# Altium schematic symbol library ZhangXue_Project.SCHLIB: 35 symbols
Pins are listed as number, name and electrical type; pins without a type are passive.

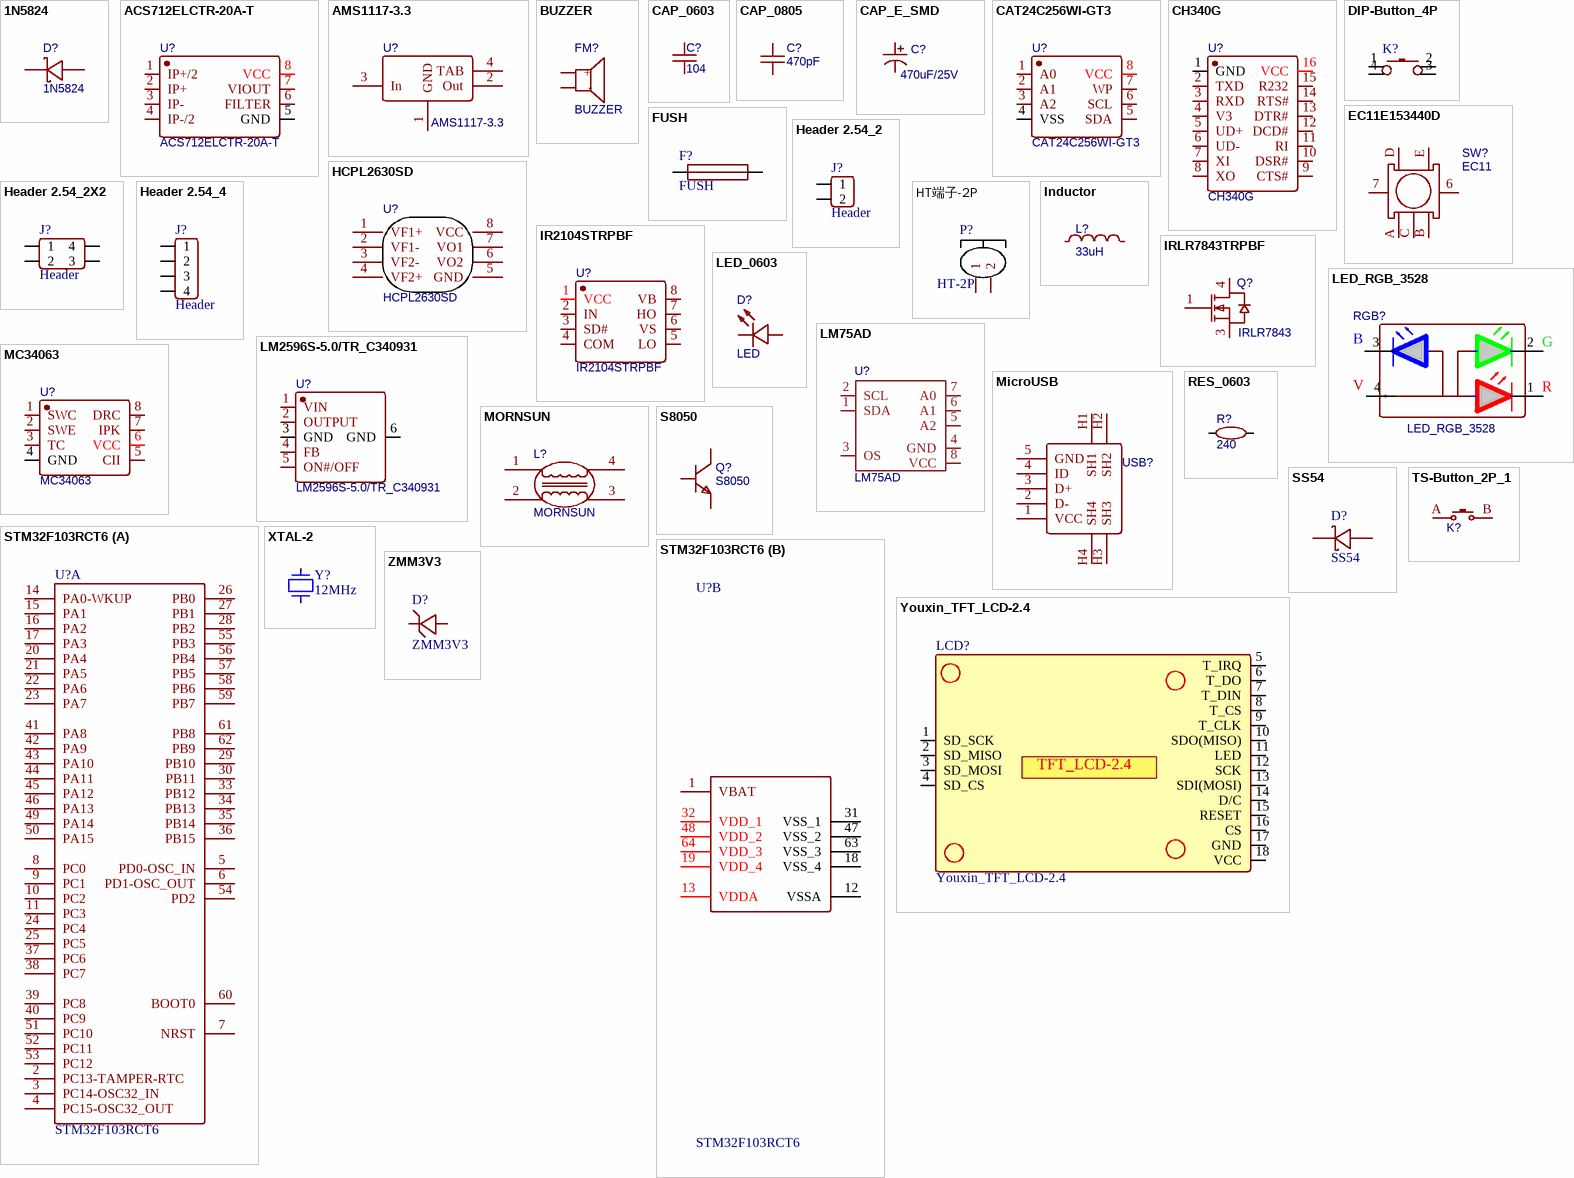
[diagram p0: symbols 1N5824 to ZMM3V3]

## 1N5824
designator D?
肖特基二极管; BOM_Manufacturer: KEXIN; BOM_Manufacturer Part: 1N5819; Contributor: LCSC; BOM_Supplier: LCSC; BOM_Supplier Part: C437199; spicePre: D; spiceSymbolName: 1N5819_C437199
footprint DO214_SMA (贴片二极管)
footprint DO214_SMB
footprint DO214_SMC
pins: 1 A, 2 C

## ACS712ELCTR-20A-T
designator U?
BOM_Manufacturer: ALLEGRO; SMT Type: Basic; spicePre: X; BOM_Supplier: LCSC; BOM_Manufacturer Part: ACS712ELCTR-20A-T; BOM_LCSC Assembly: Yes; image: //image.lceda.cn/szlcsc/C10681.jpg; BOM_Supplier Part: C10681; spiceSymbolName: ACS712ELCTR-20A-T
footprint SOIC-8_150MIL
pins: 1 IP+/2, 2 IP+, 3 IP-, 4 IP-/2, 5 GND, 6 FILTER, 7 VIOUT, 8 VCC

## AMS1117-3.3
designator U?
BOM_Manufacturer: SK; Contributor: LCSC; SMT Type: Extend; BOM_Supplier: LCSC; BOM_Supplier Part: C165482; BOM_Manufacturer Part: AMS1117-3.3; BOM_LCSC Assembly: Yes; spicePre: U; spiceSymbolName: AMS1117-3.3_C165482
footprint SOT-223_3
pins: 1 GND, 2 Out, 3 In, 4 TAB

## BUZZER
designator FM?
蜂鸣器; BOM_Manufacturer: HNDZ; BOM_Manufacturer Part: TMB12A12; BOM_Supplier: LCSC; BOM_Supplier Part: C96079; spicePre: B; spiceSymbolName: TMB12A12
footprint BUZZ-12*7.5 (外径12mm，脚距7.5mm)
pins: 1 +, 2 －

## CAP_0603
designator C?, comment 104
BOM_Manufacturer: Samsung Electro-Mechanics; BOM_Manufacturer Part: CL10B104KB8WPNC; nameAlias: Capacitance; Contributor: LCSC; BOM_Supplier: LCSC; BOM_Supplier Part: C307348; spicePre: C; spiceSymbolName: CL10B104KB8WPNC
footprint CAP_0603
pins: 1, 2

## CAP_0805
designator C?, comment 470pF
BOM_Manufacturer: Samsung Electro-Mechanics; BOM_Manufacturer Part: CL10B104KB8WPNC; nameAlias: Capacitance; Contributor: LCSC; BOM_Supplier: LCSC; BOM_Supplier Part: C307348; spicePre: C; spiceSymbolName: CL10B104KB8WPNC
footprint CAP_0805
pins: 1, 2

## CAP_E_SMD
designator C?, comment 470uF/25V
贴片电解电容; BOM_Manufacturer: ROQANG; BOM_Manufacturer Part: RVT1C221M0607; nameAlias: Capacitance; BOM_Supplier: LCSC; BOM_Supplier Part: C72496; spicePre: C; spiceSymbolName: RVT1C221M0607
footprint CAPE_SMD_D_6.4 (6.3X6.6X5.4)
footprint CAPE_SMD_G_10.6 (10X10.3X10.2)
footprint CAPE_SMD_F_8.4 (8X8.3X10.2)
pins: 1, 2

## CAT24C256WI-GT3
designator U?
BOM_Manufacturer: ON; SMT Type: Extend; BOM_Supplier: LCSC; BOM_Manufacturer Part: CAT24C256WI-GT3; image: //image.lceda.cn/szlcsc/C79987.jpg; BOM_Supplier Part: C79987; BOM_LCSC Assembly: Yes; spicePre: U; spiceSymbolName: CAT24C256WI-GT3
footprint SOIC-8_150MIL
pins: 1 A0, 2 A1, 3 A2, 4 VSS, 5 SDA, 6 SCL, 7 WP, 8 VCC

## CH340G
designator U?
BOM_Manufacturer: WCH; SMT Type: Basic; timeStamp: 1468327462; BOM_Supplier: LCSC; BOM_Manufacturer Part: CH340G; BOM_LCSC Assembly: Yes; image: //image.lceda.cn/szlcsc/C14267.jpg; BOM_Supplier Part: C14267; spicePre: U; spiceSymbolName: CH340G
footprint SOP-16 (10.3*6.2*1.8mm（长宽高）)
pins: 1 GND, 2 TXD, 3 RXD, 4 V3, 5 UD+, 6 UD-, 7 XI, 8 XO, 9 CTS#, 10 DSR#, 11 RI, 12 DCD#, 13 DTR#, 14 RTS#, 15 R232, 16 VCC

## DIP-Button_4P
designator K?  (value not drawn)
按键，直插，6*6*6
footprint TSW DIP-6*6*6 (6*6*6mm)
pins: 1, 2, 3, 4

## EC11E153440D
designator SW?, comment EC11
BOM_Manufacturer: ALPS Electric; BOM_Manufacturer Part: EC11E153440D; Contributor: LCSC; BOM_Supplier: LCSC; BOM_Supplier Part: C370992; spicePre: S; spiceSymbolName: EC11E153440D
footprint SW_EC11
pins: 6, 7, A, B, C, D, E

## FUSH
designator F?
保险丝
footprint FUSE-L
pins: 1, 2

## HCPL2630SD
designator U?
BOM_Manufacturer: FAIRCHILD; BOM_Supplier: LCSC; BOM_Manufacturer Part: HCPL2630SD; image: //image.lceda.cn/szlcsc/C46037.jpg; BOM_Supplier Part: C46037; spicePre: U; spiceSymbolName: HCPL2630SD
footprint SOP8_2_54
pins: 1 VF1+, 2 VF1-, 3 VF2-, 4 VF2+, 5 GND, 6 VO2, 7 VO1, 8 VCC

## Header 2.54_2
designator J?, comment Header
footprint Header 2.54X2
footprint Header H 2.54X2
footprint Header F 2.54X2
footprint HX2.54-2 (两针白色插座（已加焊）)
pins: 1, 2

## Header 2.54_2X2
designator J?, comment Header
footprint Header 2.54_2x2
pins: 1, 2, 3, 4

## Header 2.54_4
designator J?, comment Header
footprint Header 2.54X4
footprint Header H 2.54X4
footprint Header F 2.54X4
pins: 1, 2, 3, 4

## HT端子-2P
designator P?, comment HT-2P
footprint HT508-2P
footprint HT508-2P-H
pins: 1, 2

## Inductor
designator L?, comment 33uH
BOM_Manufacturer: TDK; BOM_Manufacturer Part: NLV25T-330J-EF; nameAlias: Inductance; Contributor: LCSC; BOM_Supplier: LCSC; BOM_Supplier Part: C295130; spicePre: L; spiceSymbolName: NLV25T-330J-EF
footprint Inductor_CD_75
footprint Inductor_8x10
pins: 1, 2

## IR2104STRPBF
designator U?
半桥驱动; BOM_Manufacturer: IR; SMT Type: Extend; spicePre: X; BOM_Supplier: LCSC; BOM_Manufacturer Part: IR2104STRPBF; image: //image.lceda.cn/szlcsc/C2960.jpg; BOM_Supplier Part: C2960; BOM_LCSC Assembly: Yes; spiceSymbolName: IR2104STRPBF
footprint SOIC-8_150MIL
pins: 1 VCC, 2 IN, 3 SD#, 4 COM, 5 LO, 6 VS, 7 HO, 8 VB

## IRLR7843TRPBF
designator Q?, comment IRLR7843
MOS管; BOM_Manufacturer: IR; BOM_Manufacturer Part: IRLR7843TRPBF; SMT Type: Extend; BOM_Supplier: LCSC; image: //image.lceda.cn/szlcsc/C21988.jpg; BOM_Supplier Part: C21988; BOM_LCSC Assembly: Yes; spicePre: Q; spiceSymbolName: IRLR7843TRPBF
footprint TO-252-2
pins: 1 G, 3 S, 4 D

## LED_0603
designator D?, comment LED
发光LED; BOM_Manufacturer: ARKLED; BOM_Manufacturer Part: D-G080508G1; Contributor: LCSC; BOM_Supplier: LCSC; BOM_Supplier Part: C107402; spicePre: L; spiceSymbolName: D-G080508G1
footprint LED_0603_B
pins: A, C

## LED_RGB_3528
designator RGB?
BOM_Manufacturer: NATIONSTAR; BOM_Manufacturer Part: FM-3528RGBA-HF; Contributor: LCSC; BOM_Supplier: LCSC; BOM_Supplier Part: C108539; spicePre: L; spiceSymbolName: FM-3528RGBA-HF
footprint LED_3528_RGB
pins: 1, 2, 3, 4
text: B; G; V; R

## LM75AD
designator U?
BOM_Manufacturer: NXP; SMT Type: Extend; BOM_Supplier: LCSC; BOM_Manufacturer Part: LM75AD; image: //image.lceda.cn/szlcsc/C7963.jpg; BOM_Supplier Part: C7963; BOM_LCSC Assembly: Yes; spicePre: U; spiceSymbolName: LM75AD
footprint SOIC-8_150MIL
pins: 1 SDA, 2 SCL, 3 OS, 4 GND, 5 A2, 6 A1, 7 A0, 8 VCC

## LM2596S-5.0/TR_C340931
designator U?
BOM_Manufacturer: Huaguan Semicon; Contributor: LCSC; BOM_Supplier: LCSC; BOM_Supplier Part: C340931; BOM_Manufacturer Part: LM2596S-5.0/TR; spicePre: U; spiceSymbolName: LM2596S-5.0/TR_C340931
footprint TO-263_5
pins: 1 VIN, 2 OUTPUT, 3 GND, 4 FB, 5 ON#/OFF, 6 GND

## MC34063
designator U?
BOM_Manufacturer: STMicroelectronics; BOM_Manufacturer Part: MC34063ACN; Contributor: LCSC; BOM_Supplier: LCSC; BOM_Supplier Part: C283638; spicePre: U; spiceSymbolName: MC34063ACN
footprint SOIC-8_150MIL
pins: 1 SWC, 2 SWE, 3 TC, 4 GND, 5 CII, 6 VCC, 7 IPK, 8 DRC

## MicroUSB
designator USB?, comment USB  (value not drawn)
BOM_Manufacturer: SHOU HAN; BOM_Manufacturer Part: MicroXNJ; Contributor: LCSC; BOM_Supplier: LCSC; BOM_Supplier Part: C404969; spicePre: U; spiceSymbolName: MICROXNJ
footprint USB_Micro_DIP41
pins: 1 VCC, 2 D-, 3 D+, 4 ID, 5 GND, H1 SH1, H2 SH2, H3 SH3, H4 SH4

## MORNSUN
designator L?
共模电感; BOM_Manufacturer: MORNSUN Guangzhou S& T; BOM_Manufacturer Part: FL2D-30-102; nameAlias: Value; Contributor: LCSC; BOM_Supplier: LCSC; BOM_Supplier Part: C194629; spicePre: L; spiceSymbolName: FL2D-30-102
footprint Inductor_Pin4
pins: 1, 2, 3, 4

## RES_0603
designator R?, comment 240
BOM_Manufacturer: YAGEO; BOM_Manufacturer Part: RC0402JR-07100KL; nameAlias: Resistance (Ohms); BOM_Supplier: LCSC; BOM_Supplier Part: C106234; spicePre: R; spiceSymbolName: RC0402JR-07100KL
footprint RES_0603
pins: 1, 2

## S8050
designator Q?
三极管NPN; BOM_Manufacturer: FH; BOM_Manufacturer Part: FHT9014Y-ME; SMT Type: Extend; BOM_Supplier: LCSC; BOM_Supplier Part: C88861; BOM_LCSC Assembly: Yes; spicePre: Q; spiceSymbolName: FHT9014Y-ME
footprint SOT-23-3
pins: 1 B, 2 E, 3 C

## SS54
designator D?
1N5819
footprint DO214_SMA (贴片二极管)
footprint SOD-323
pins: 1 A, 2 C

## STM32F103RCT6
designator U?
footprint LQFP_64_10X10
part A pins: 2 PC13-TAMPER-RTC, 3 PC14-OSC32_IN, 4 PC15-OSC32_OUT, 5 PD0-OSC_IN, 6 PD1-OSC_OUT, 7 NRST, 8 PC0, 9 PC1, 10 PC2, 11 PC3, 14 PA0-WKUP, 15 PA1, 16 PA2, 17 PA3, 20 PA4, 21 PA5, 22 PA6, 23 PA7, 24 PC4, 25 PC5, 26 PB0, 27 PB1, 28 PB2, 29 PB10, 30 PB11, 33 PB12, 34 PB13, 35 PB14, 36 PB15, 37 PC6, 38 PC7, 39 PC8, 40 PC9, 41 PA8, 42 PA9, 43 PA10, 44 PA11, 45 PA12, 46 PA13, 49 PA14, 50 PA15, 51 PC10, 52 PC11, 53 PC12, 54 PD2, 55 PB3, 56 PB4, 57 PB5, 58 PB6, 59 PB7, 60 BOOT0, 61 PB8, 62 PB9
part B pins: 1 VBAT, 12 VSSA, 13 VDDA, 18 VSS_4, 19 VDD_4, 31 VSS_1, 32 VDD_1, 47 VSS_2, 48 VDD_2, 63 VSS_3, 64 VDD_3

## TS-Button_2P_1
designator K?, comment TS-Button_2P  (value not drawn)
贴片按键 3*6*2.5; BOM_Manufacturer: XUNPU; BOM_Manufacturer Part: TS-1007S-26; Contributor: LCSC; BOM_Supplier: LCSC; BOM_Supplier Part: C455236; spicePre: S; spiceSymbolName: TS-1007S-26
footprint SW_SMD_6.1*3.7 (SW-SMD_L6.1-W3.7-LS7.9)
pins: A, B

## XTAL-2
designator Y?, comment 12MHz
晶振
footprint XTAL1
pins: 1, 2

## Youxin_TFT_LCD-2.4
designator LCD?
footprint Youxin_TFT_LCD-2.4
pins: 1 SD_SCK, 2 SD_MISO, 3 SD_MOSI, 4 SD_CS, 5 T_IRQ, 6 T_DO, 7 T_DIN, 8 T_CS, 9 T_CLK, 10 SDO(MISO), 11 LED, 12 SCK, 13 SDI(MOSI), 14 D/C, 15 RESET, 16 CS, 17 GND, 18 VCC
text: TFT_LCD-2.4

## ZMM3V3
designator D?
footprint LL34
pins: 1 A, 2 C